# Altium integrated library servos.IntLib: 1 symbol
Pins are listed as number, name and electrical type; pins without a type are passive.

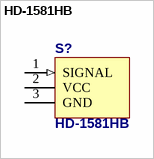
[diagram p0: symbol HD-1581HB]

## HD-1581HB
designator S?
HD-1581HB Micro Servo
footprint HD-1581HB_HORIZONTAL
footprint HD-1581HB_HORIZONTAL_2
footprint HD-1581HB_VERTICAL_1
footprint HD-1581HB_VERTICAL_2
pins: 1 SIGNAL (in), 2 VCC (power), 3 GND (power)